# Altium footprint library SM1.PcbLib: 3 footprints
Each footprint in its own frame and in the unit in brackets; x right, y up, seen from the top. Pads: shape width x height; smd on the part's side, far side on the other; paste and mask are expansions set on the pad; w line width, h text height; cw(c..) or ccw(c..) is an arc to the next point about the centre after c.
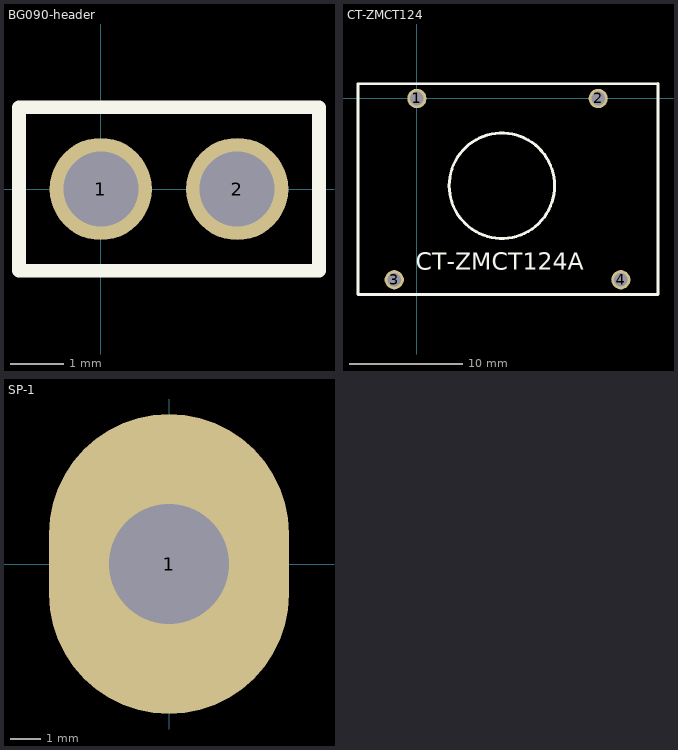
[diagram p0: the footprints below, top view; thin cyan lines are the x and y axes]

## BG090-header [mil]
pads (2):
  round 75 hole 55: 1(0,0) 2(100,0)
Top Overlay:
  lines w10: -60,-60 160,-60 160,60 -60,60 -60,-60

## CT-ZMCT124 [mm] "current transformer"
pads (4):
  round 1.7 hole 1.2: 1(0,0) 2(16,0) 3(-2,-16) 4(18,-16)
Top Overlay:
  circle w0.254: c7.5,-7.7 r4.653
  lines w0.254: 21.1,1.3 -5.2,1.3 -5.2,-17.3 21.28,-17.3 21.28,1.32
  text "CT-ZMCT124A" at -0.1,-15.1 h1.52

## SP-1 [mm]
pads (1):
  oval 8x10 hole 4: 1(0,0)